# Altium schematic symbol library TemplateNordicSensorNode.SCHLIB: 1 symbol
Pins are listed as number, name and electrical type; pins without a type are passive.

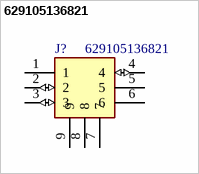
[diagram p0: symbol 629105136821]

## 629105136821
designator J?
Connector; Manufacturer_Name: Wurth Elektronik; Datasheet Link: https://componentsearchengine.com/Datasheets/1/629105136821.pdf; Mouser2 Part Number: 710-629105136821; Mouser2 Price/Stock: https://www.mouser.com/Search/Refine.aspx?Keyword=710-629105136821; Manufacturer_Part_Number: 629105136821
footprint MICRO-USB(2.0-SMT-TYPE-B) (Footprint not found)
pins: 1, 2 (io), 3 (io), 4 (io), 5, 6, 7, 8, 9